# Altium footprint library resistors.PcbLib: 50 footprints (part 2 of 4)
Each footprint in its own frame and in the unit in brackets; x right, y up, seen from the top. Pads: shape width x height; smd on the part's side, far side on the other; paste and mask are expansions set on the pad; w line width, h text height; cw(c..) or ccw(c..) is an arc to the next point about the centre after c.
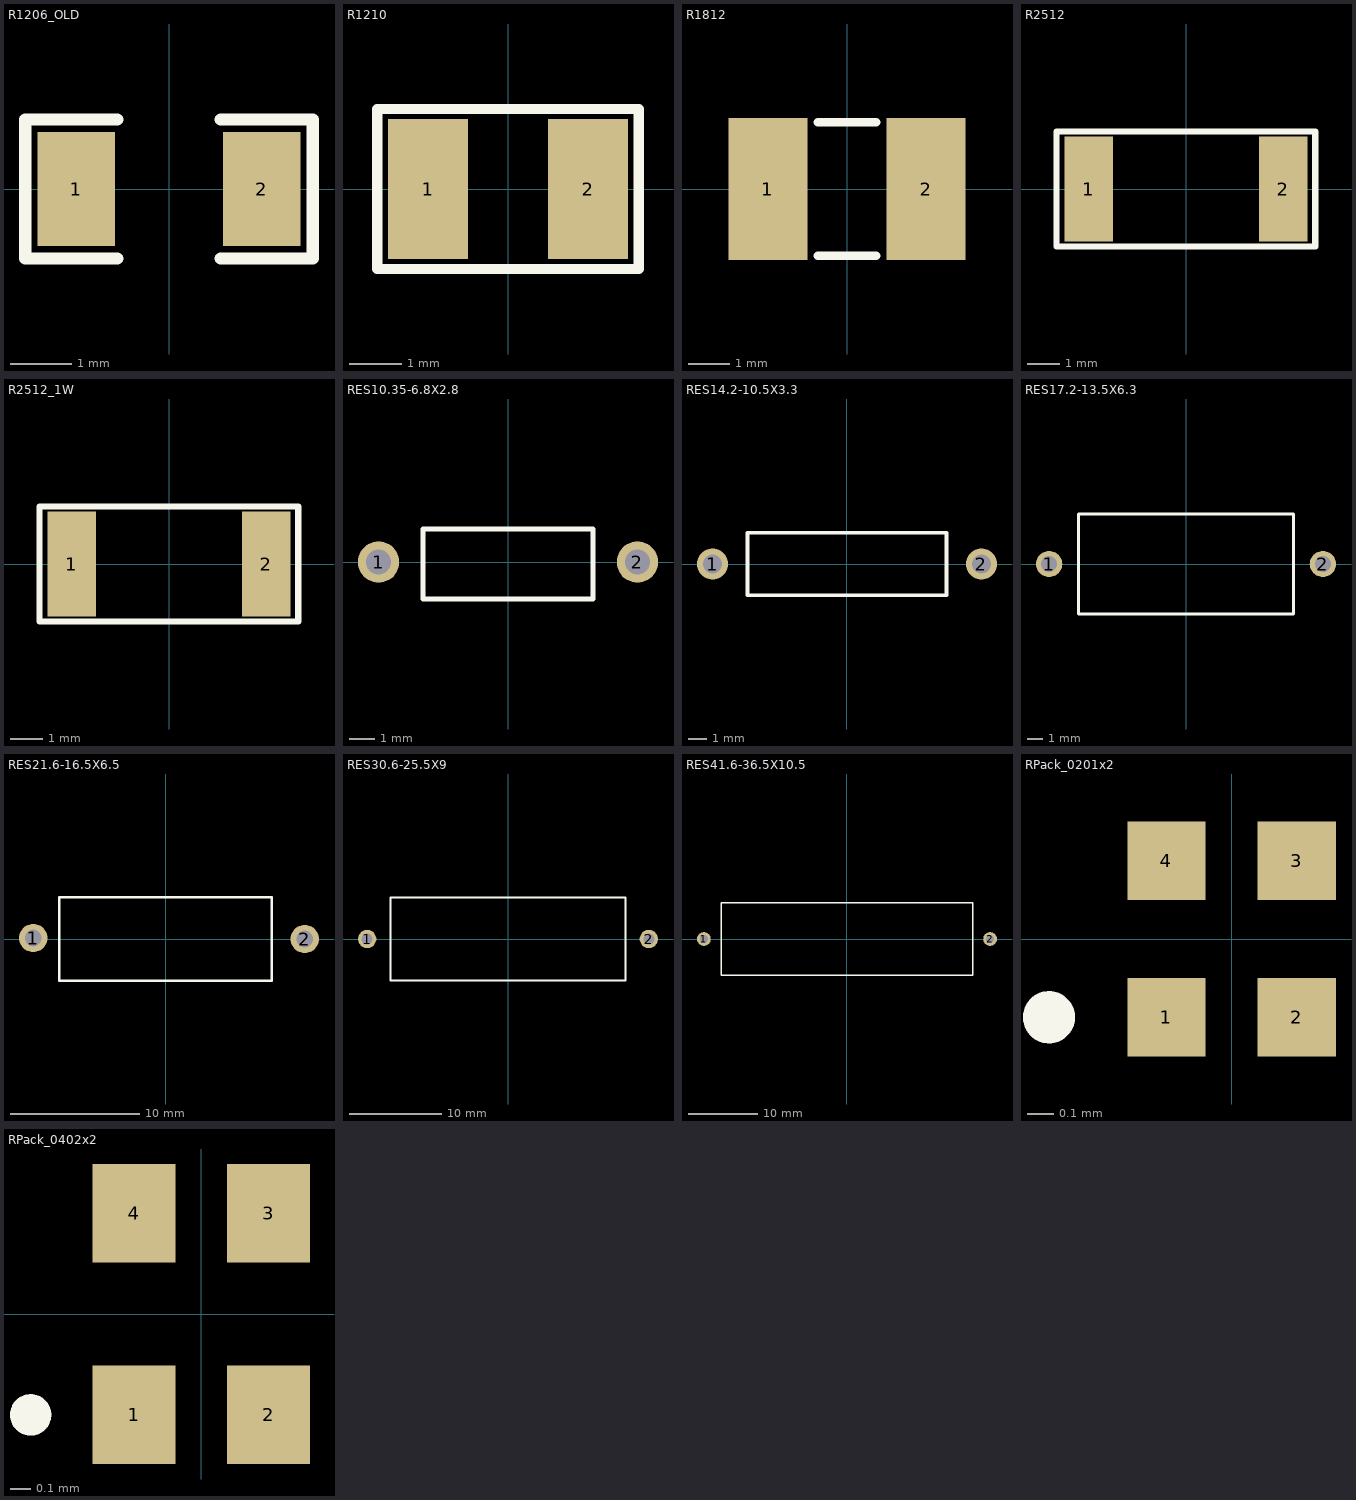
[diagram p1: the footprints below, top view; thin cyan lines are the x and y axes]

## R1206_OLD [mil]
height 86.61
pads (2):
  rect 50x74 smd: 1(-60,0) 2(60,0)
Top Overlay:
  lines w7.87: -33.46,-45 -93,-45 -93,45 -33.46,45 ; 33.46,-45 92.91,-45 92.91,45 33.46,45
3D body "SW3dPS-R1206.step": height 18.66, standoff 0, extent -61.02,-30.55 61.03,30.56

## R1210 [mil]
height 39.37
pads (2):
  rect 60x105 smd: 1(-60,0) 2(60,0)
Top Overlay:
  lines w7.87: -98,-60 -98,60 98,60 98,-60 -98,-60

## R1812 [mm] "1812 size SMD resistor"
height 1
pads (2):
  rect 1.9x3.4 smd: 1(-1.9,0) 2(1.9,0)
Top Overlay:
  lines w0.2: -0.7,-1.6 0.7,-1.6 ; -0.7,1.6 0.7,1.6
3D body "User Library-1812 SMD Resistor.step": height 1.6, standoff 0, extent -2.25,-1.6 2.25,1.6

## R2512 [mil] "2512 size SMD resistor"
height 39.37
pads (2):
  rect 60x130 smd: 1(-120,0) 2(120,0)
Top Overlay:
  lines w7.87: -100.67,-70.87 159.17,-70.87 159.17,70.87 21.38,70.87 ; -99.61,-70.87 -159.72,-70.87 -159.72,70.87 29.25,70.87
3D body "SW3dPS-R2512.STEP": height 18.66, standoff 0, extent -125,-63.06 125,63

## R2512_1W [mil] "2512 size SMD resistor"
height 39.37
pads (2):
  rect 60x130 smd: 1(-120,0) 2(120,0)
Top Overlay:
  lines w7.87: -100.67,-70.87 159.17,-70.87 159.17,70.87 21.38,70.87 ; -99.61,-70.87 -159.72,-70.87 -159.72,70.87 29.25,70.87
3D body "User Library-2512 SMD Resistor.step": height 63.07, standoff 0, extent -124.99,-59.05 125,59.06

## RES10.35-6.8X2.8 [mm] "Resistor, Axial; Body 6.8 x 2.8 mm (LxDia. max), Lead Dia. 0.65 mm (max)"
height 2.8
pads (2):
  round 1.65 hole 1: 1(-5.175,0) 2(5.175,0)
Top Overlay:
  lines w0.2: -3.4,-1.476 -3.4,1.324 3.4,1.324 3.4,-1.476 -3.4,-1.476
3D body "__SW3dPS-RESISTOR, 0.25 W, 0.4 IN LEAD PITCH.STEP": height 2.54, standoff -2.93, extent -5.359,-1.194 5.41,1.118

## RES14.2-10.5X3.3 [mm] "Resistor, Axial; Body 10.5 x 3.3 mm (LxDia. max), Lead Dia. 0.7 mm (max)"
height 3.3
pads (2):
  round 1.65 hole 1: 1(-7.1,0) 2(7.1,0)
Top Overlay:
  lines w0.2: -5.25,-1.65 -5.25,1.65 5.25,1.65 5.25,-1.65 -5.25,-1.65

## RES17.2-13.5X6.3 [mm] "Resistor, Axial; Body 13.5 x 6.3 mm (LxDia. max), Lead Dia. 0.7 mm (max)"
height 6.3
pads (2):
  round 1.65 hole 1: 1(-8.6,0) 2(8.6,0)
Top Overlay:
  lines w0.2: -6.75,-3.15 -6.75,3.15 6.75,3.15 6.75,-3.15 -6.75,-3.15

## RES21.6-16.5X6.5 [mm] "Resistor, Axial; Body 16.5 x 6.5 mm (LxDia. max), Lead Dia. 0.85 mm (max)"
height 6.5
pads (2):
  round 2.2 hole 1.3: 1(-10.262,0.076) 2(10.8,0)
Top Overlay:
  lines w0.2: -8.25,-3.25 8.25,-3.25 8.25,3.25 -8.25,3.25 -8.25,-3.25
3D body "SW3dPS-AXIAL_RESISTOR(3W) HORIZONTAL.STEP": height 8.3, standoff -2, extent -10.821,-3.277 11.379,3.323

## RES30.6-25.5X9 [mm] "Resistor, Axial; Body 25.5 x 9 mm (LxDia. max), Lead Dia. 0.85 mm (max)"
height 9
pads (2):
  round 2 hole 1.2: 1(-15.3,0) 2(15.3,0)
Top Overlay:
  lines w0.2: -12.75,-4.5 12.75,-4.5 12.75,4.5 -12.75,4.5 -12.75,-4.5

## RES41.6-36.5X10.5 [mm] "Resistor, Axial; Body 36.5 x 10.5 x 10.5mm (LxWxH max), Lead Dia. 0.85 mm (max)"
height 10.5
pads (2):
  round 2 hole 1.2: 1(-20.8,0) 2(20.8,0)
Top Overlay:
  lines w0.2: -18.25,-5.25 18.25,-5.25 18.25,5.25 -18.25,5.25 -18.25,-5.25

## RPack? [mm]
3D body "User Library-RR_CN2B2.STEP": height 0.05, standoff -0.59, extent -1.168,-1.702 1.372,1.498

## RPack?? [mm]
3D body "User Library-RR_CN1J2.STEP": height 0.04, standoff -0.42, extent -0.825,-0.698 0.775,0.902

## RPack??? [mm]
3D body "User Library-RR_CN2B8.STEP": height 0.05, standoff -0.59, extent -5.08,-1.575 5.08,1.625

## RPack_0201x2 [mm] "Chip Resistor Array, (0201x2); SM; 4 Leads; Body 0.90 x 0.70 mm (LxW max)"
height 0.45
pads (4):
  rect 0.3x0.3 smd: 1(-0.25,-0.3) 2(0.25,-0.3) 3(0.25,0.3) 4(-0.25,0.3)
Top Overlay:
  circle w0.1: c-0.7,-0.3 r0.05

## RPack_0402x2 [mm] "Chip Resistor Array, (0402x2); SM; 4 Leads; Body 1.05 x 1.05 mm (LxW max)"
height 0.4
pads (4):
  rect 0.4x0.475 smd: 1(-0.325,-0.487) 2(0.325,-0.487) 3(0.325,0.487) 4(-0.325,0.487)
Top Overlay:
  circle w0.1: c-0.825,-0.487 r0.05
3D body "User Library-YC122.step": height 0.35, standoff 0, extent -0.5,-0.5 0.5,0.5